# Altium integrated library Linear Technology PMIC-Switching Reg LT1074-LT8705.IntLib: 2252 symbols (part 118 of 124)
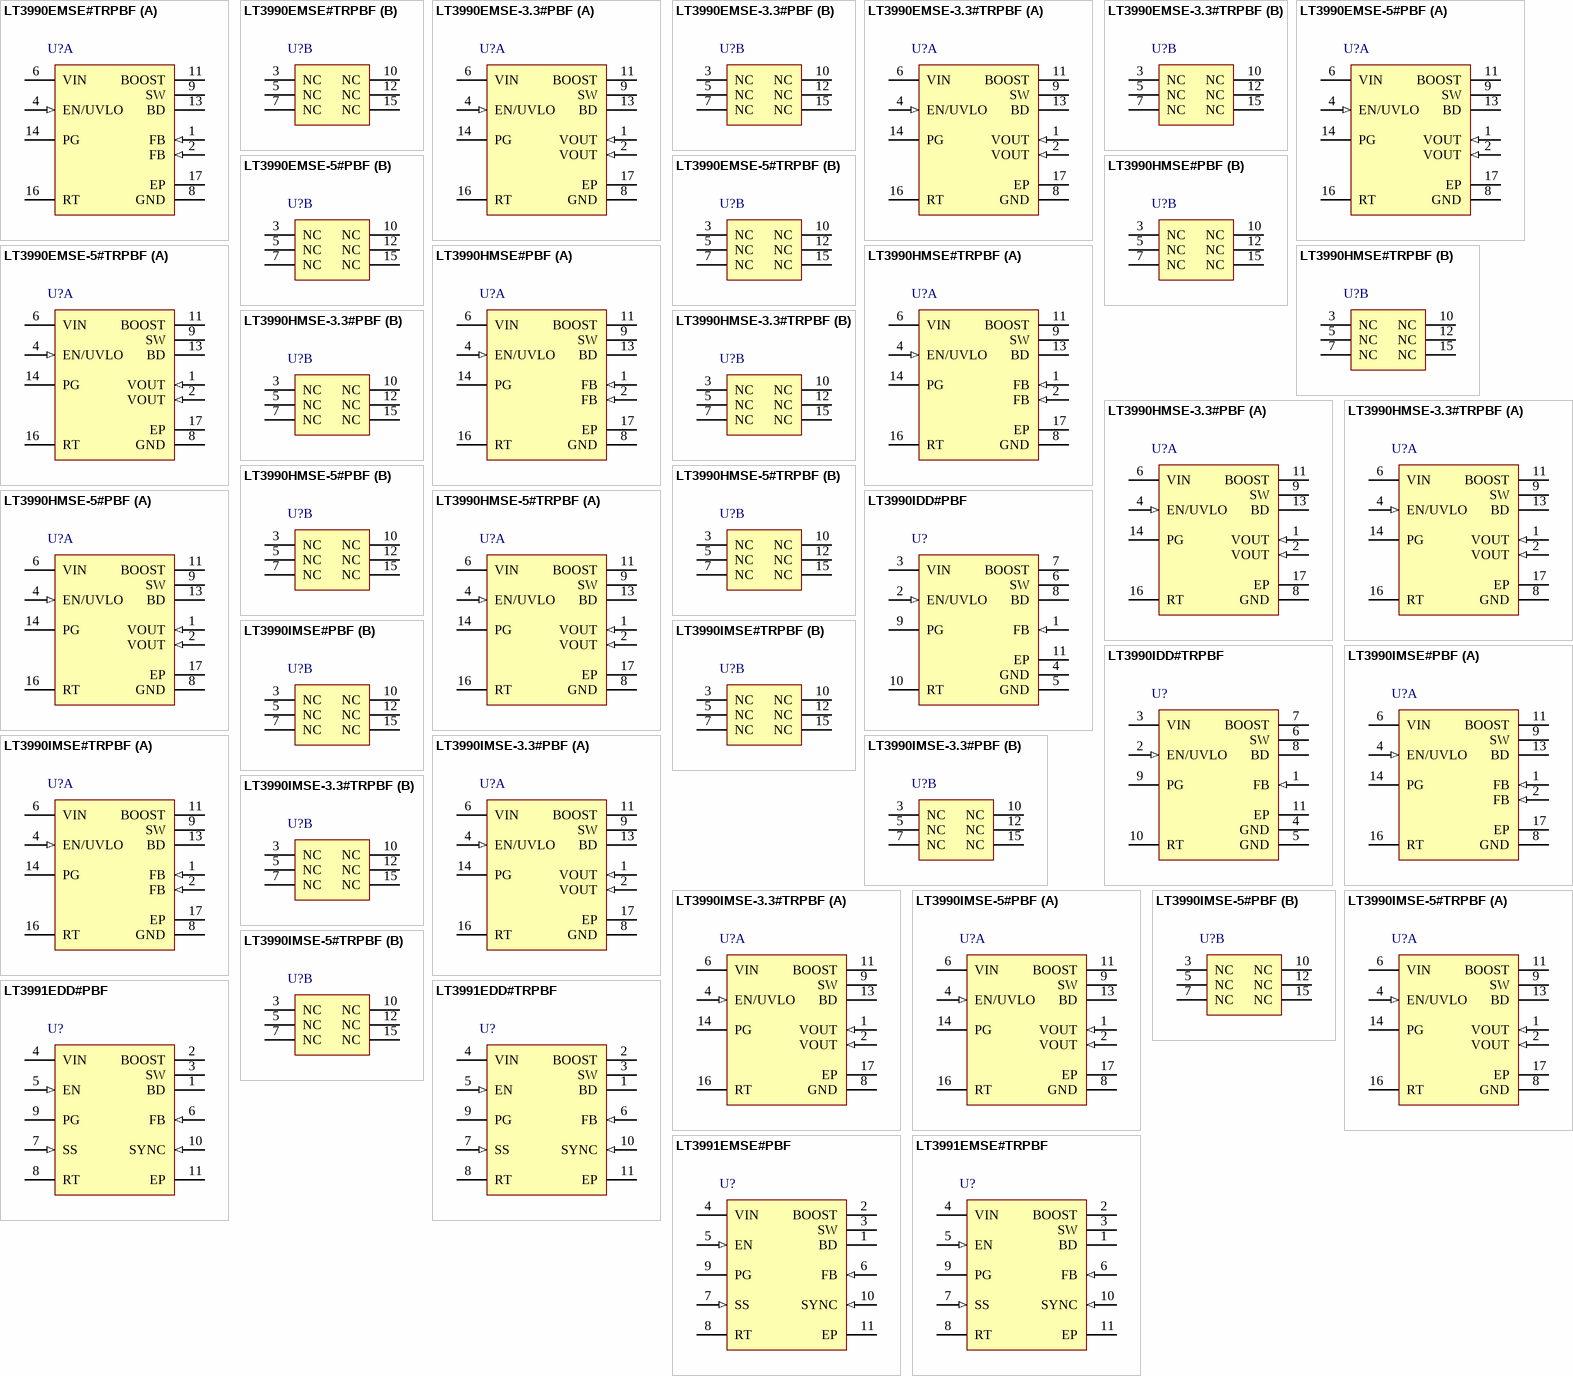
[diagram p188: symbols LT3990EMSE#TRPBF to LT3991EMSE#TRPBF]

## LT3990IDD#TRPBF
designator U?
350 mA Step-Down Regulator with 2.5 uA Quiescent Current and Integrated Diodes, 10-pin SON (DD-10), -40 to 125 degC, Pb-Free, Tape and Reel; Manufacturer: Linear Technology; PartNumber: LT3990IDD#TRPBF; Number of Outputs: 1; PackageReference: DD-10; PackageDescription: 10-Pin Plastic DFN, Body 3 x 3 mm, Pitch 0.5 mm; Supplier 1: Digi-Key; Supplier Part Number 1: LT3990IDD#TRPBF-ND; RoHS: TRUE
footprint LT-DD-10_V (SON, 10-Leads, Body 3x3mm, Pitch 0.5mm, Thermal Pad 2.38x1.65mm)
pins: 1 FB (in) "The LT3990 regulates the FB pin to 1.21V. Connect the feedback resistor divider tap to this pin. The two FB pins on the MSE package are connected internally and provide a redundant path for the feedback divider. Tie the (See Datasheet)", 2 EN/UVLO (in) "The part is in shutdown when this pin is low and active when this pin is high. The threshold voltage is 1.19V going up with 35mV of hysteresis. Tie to VIN if shutdown feature is not used. The EN/UVLO threshold is accurate (See Datasheet)", 3 VIN (power) "The VIN pin supplies current to the LT3990’s internal circuitry and to the internal power switch. This pin must be locally bypassed.", 4 GND (power) "Ground.", 5 GND (power) "Ground.", 6 SW (power) "The SW pin is the output of an internal power switch. Connect this pin to the inductor.", 7 BOOST "This pin is used to provide a drive voltage, higher than the input voltage, to the internal bipolar NPN power switch.", 8 BD (power) "This pin connects to the anode of the boost diode. This pin also supplies current to the LT3990’s internal regulator when BD is above 3.2V.", 9 PG (oc) "The PG pin is the open-drain output of an internal comparator. PG remains low until the FB pin is within 10% of the final regulation voltage. PG is valid when VIN is above 4.2V and EN/UVLO is high.", 10 RT "A resistor is tied between RT and ground to set the switching frequency.", 11 EP (power) "The exposed pad must be soldered to the PCB."

## LT3990IMSE#PBF
designator U?
350 mA Step-Down Regulator with 2.5 uA Quiescent Current and Integrated Diodes, 16-pin SOP (MSE-16-EDP), -40 to 125 degC, Pb-Free; Manufacturer: Linear Technology; PartNumber: LT3990IMSE#PBF; Number of Outputs: 1; PackageReference: MSE-16; PackageDescription: 16-Pin Plastic MSOP, Exposed Die Pad, Body 4.039 x 3 mm, Pitch 0.5 mm; Supplier 1: Digi-Key; Supplier Part Number 1: LT3990IMSE#PBF-ND; RoHS: TRUE
footprint LT-MSE-16-EDP_N (SOP, 16-Leads, Body 4.1x3.1mm, Pitch 0.5mm, Thermal Pad 2.95x1.76mm, IPC Medium Density)
footprint LT-MSE-16-EDP_L (SOP, 16-Leads, Body 4.1x3.1mm, Pitch 0.5mm, Thermal Pad 2.95x1.76mm, IPC High Density)
footprint LT-MSE-16-EDP_M (SOP, 16-Leads, Body 4.1x3.1mm, Pitch 0.5mm, Thermal Pad 2.95x1.76mm, IPC Low Density)
part A pins: 1 FB (in) "The LT3990 regulates the FB pin to 1.21V. Connect the feedback resistor divider tap to this pin. The two FB pins on the MSE package are connected internally and provide a redundant path for the feedback divider. Tie the (See Datasheet)", 2 FB (in) "The LT3990 regulates the FB pin to 1.21V. Connect the feedback resistor divider tap to this pin. The two FB pins on the MSE package are connected internally and provide a redundant path for the feedback divider. Tie the (See Datasheet)", 4 EN/UVLO (in) "The part is in shutdown when this pin is low and active when this pin is high. The threshold voltage is 1.19V going up with 35mV of hysteresis. Tie to VIN if shutdown feature is not used. The EN/UVLO threshold is accurate (See Datasheet)", 6 VIN (power) "The VIN pin supplies current to the LT3990’s internal circuitry and to the internal power switch. This pin must be locally bypassed.", 8 GND (power) "Ground. The exposed pad must be soldered to the PCB.", 9 SW (power) "The SW pin is the output of an internal power switch. Connect this pin to the inductor.", 11 BOOST "This pin is used to provide a drive voltage, higher than the input voltage, to the internal bipolar NPN power switch.", 13 BD (power) "This pin connects to the anode of the boost diode. This pin also supplies current to the LT3990’s internal regulator when BD is above 3.2V.", 14 PG (oc) "The PG pin is the open-drain output of an internal comparator. PG remains low until the FB pin is within 10% of the final regulation voltage. PG is valid when VIN is above 4.2V and EN/UVLO is high.", 16 RT "A resistor is tied between RT and ground to set the switching frequency.", 17 EP (power) "Ground. The exposed pad must be soldered to the PCB."
part B pins: 3 NC "No Connects. These pins are not connected to internal circuitry and must be left floating to ensure fault tolerance.", 5 NC "No Connects. These pins are not connected to internal circuitry and must be left floating to ensure fault tolerance.", 7 NC "No Connects. These pins are not connected to internal circuitry and must be left floating to ensure fault tolerance.", 10 NC "No Connects. These pins are not connected to internal circuitry and must be left floating to ensure fault tolerance.", 12 NC "No Connects. These pins are not connected to internal circuitry and must be left floating to ensure fault tolerance.", 15 NC "No Connects. These pins are not connected to internal circuitry and must be left floating to ensure fault tolerance."

## LT3990IMSE#TRPBF
designator U?
350 mA Step-Down Regulator with 2.5 uA Quiescent Current and Integrated Diodes, 16-pin SOP (MSE-16-EDP), -40 to 125 degC, Pb-Free, Tape and Reel; Manufacturer: Linear Technology; PartNumber: LT3990IMSE#TRPBF; Number of Outputs: 1; PackageReference: MSE-16; PackageDescription: 16-Pin Plastic MSOP, Exposed Die Pad, Body 4.039 x 3 mm, Pitch 0.5 mm; Supplier 1: Digi-Key; Supplier Part Number 1: LT3990IMSE#TRPBF-ND; RoHS: TRUE
footprint LT-MSE-16-EDP_N (SOP, 16-Leads, Body 4.1x3.1mm, Pitch 0.5mm, Thermal Pad 2.95x1.76mm, IPC Medium Density)
footprint LT-MSE-16-EDP_L (SOP, 16-Leads, Body 4.1x3.1mm, Pitch 0.5mm, Thermal Pad 2.95x1.76mm, IPC High Density)
footprint LT-MSE-16-EDP_M (SOP, 16-Leads, Body 4.1x3.1mm, Pitch 0.5mm, Thermal Pad 2.95x1.76mm, IPC Low Density)
part A pins: 1 FB (in) "The LT3990 regulates the FB pin to 1.21V. Connect the feedback resistor divider tap to this pin. The two FB pins on the MSE package are connected internally and provide a redundant path for the feedback divider. Tie the (See Datasheet)", 2 FB (in) "The LT3990 regulates the FB pin to 1.21V. Connect the feedback resistor divider tap to this pin. The two FB pins on the MSE package are connected internally and provide a redundant path for the feedback divider. Tie the (See Datasheet)", 4 EN/UVLO (in) "The part is in shutdown when this pin is low and active when this pin is high. The threshold voltage is 1.19V going up with 35mV of hysteresis. Tie to VIN if shutdown feature is not used. The EN/UVLO threshold is accurate (See Datasheet)", 6 VIN (power) "The VIN pin supplies current to the LT3990’s internal circuitry and to the internal power switch. This pin must be locally bypassed.", 8 GND (power) "Ground. The exposed pad must be soldered to the PCB.", 9 SW (power) "The SW pin is the output of an internal power switch. Connect this pin to the inductor.", 11 BOOST "This pin is used to provide a drive voltage, higher than the input voltage, to the internal bipolar NPN power switch.", 13 BD (power) "This pin connects to the anode of the boost diode. This pin also supplies current to the LT3990’s internal regulator when BD is above 3.2V.", 14 PG (oc) "The PG pin is the open-drain output of an internal comparator. PG remains low until the FB pin is within 10% of the final regulation voltage. PG is valid when VIN is above 4.2V and EN/UVLO is high.", 16 RT "A resistor is tied between RT and ground to set the switching frequency.", 17 EP (power) "Ground. The exposed pad must be soldered to the PCB."
part B pins: 3 NC "No Connects. These pins are not connected to internal circuitry and must be left floating to ensure fault tolerance.", 5 NC "No Connects. These pins are not connected to internal circuitry and must be left floating to ensure fault tolerance.", 7 NC "No Connects. These pins are not connected to internal circuitry and must be left floating to ensure fault tolerance.", 10 NC "No Connects. These pins are not connected to internal circuitry and must be left floating to ensure fault tolerance.", 12 NC "No Connects. These pins are not connected to internal circuitry and must be left floating to ensure fault tolerance.", 15 NC "No Connects. These pins are not connected to internal circuitry and must be left floating to ensure fault tolerance."

## LT3990IMSE-3.3#PBF
designator U?
350 mA Step-Down Regulator with 2.5 uA Quiescent Current and Integrated Diodes, 16-pin SOP (MSE-16-EDP), -40 to 125 degC, Pb-Free; Manufacturer: Linear Technology; PartNumber: LT3990IMSE-3.3#PBF; Number of Outputs: 1; PackageReference: MSE-16; PackageDescription: 16-Pin Plastic MSOP, Exposed Die Pad, Body 4.039 x 3 mm, Pitch 0.5 mm; Supplier 1: Digi-Key; Supplier Part Number 1: LT3990IMSE-3.3#PBF-ND; RoHS: TRUE
footprint LT-MSE-16-EDP_N (SOP, 16-Leads, Body 4.1x3.1mm, Pitch 0.5mm, Thermal Pad 2.95x1.76mm, IPC Medium Density)
footprint LT-MSE-16-EDP_L (SOP, 16-Leads, Body 4.1x3.1mm, Pitch 0.5mm, Thermal Pad 2.95x1.76mm, IPC High Density)
footprint LT-MSE-16-EDP_M (SOP, 16-Leads, Body 4.1x3.1mm, Pitch 0.5mm, Thermal Pad 2.95x1.76mm, IPC Low Density)
part A pins: 1 VOUT (in) "The LT3990-3.3 and LT3990-5 regulate the VOUT pin to 3.3V and 5V, respectively. This pin connects to the internal feedback divider that programs the fixed output voltage. The two VOUT pins are connected internally and (See Datasheet)", 2 VOUT (in) "The LT3990-3.3 and LT3990-5 regulate the VOUT pin to 3.3V and 5V, respectively. This pin connects to the internal feedback divider that programs the fixed output voltage. The two VOUT pins are connected internally and (See Datasheet)", 4 EN/UVLO (in) "The part is in shutdown when this pin is low and active when this pin is high. The threshold voltage is 1.19V going up with 35mV of hysteresis. Tie to VIN if shutdown feature is not used. The EN/UVLO threshold is accurate (See Datasheet)", 6 VIN (power) "The VIN pin supplies current to the LT3990’s internal circuitry and to the internal power switch. This pin must be locally bypassed.", 8 GND (power) "Ground.", 9 SW (power) "The SW pin is the output of an internal power switch. Connect this pin to the inductor.", 11 BOOST "This pin is used to provide a drive voltage, higher than the input voltage, to the internal bipolar NPN power switch.", 13 BD (power) "This pin connects to the anode of the boost diode. This pin also supplies current to the LT3990’s internal regulator when BD is above 3.2V.", 14 PG (oc) "The PG pin is the open-drain output of an internal comparator. PG remains low until the FB pin is within 10% of the final regulation voltage. PG is valid when VIN is above 4.2V and EN/UVLO is high.", 16 RT "A resistor is tied between RT and ground to set the switching frequency.", 17 EP (power) "Ground. The exposed pad must be soldered to the PCB."
part B pins: 3 NC "No Connects. These pins are not connected to internal circuitry and must be left floating to ensure fault tolerance.", 5 NC "No Connects. These pins are not connected to internal circuitry and must be left floating to ensure fault tolerance.", 7 NC "No Connects. These pins are not connected to internal circuitry and must be left floating to ensure fault tolerance.", 10 NC "No Connects. These pins are not connected to internal circuitry and must be left floating to ensure fault tolerance.", 12 NC "No Connects. These pins are not connected to internal circuitry and must be left floating to ensure fault tolerance.", 15 NC "No Connects. These pins are not connected to internal circuitry and must be left floating to ensure fault tolerance."

## LT3990IMSE-3.3#TRPBF
designator U?
350 mA Step-Down Regulator with 2.5 uA Quiescent Current and Integrated Diodes, 16-pin SOP (MSE-16-EDP), -40 to 125 degC, Pb-Free, Tape and Reel; Manufacturer: Linear Technology; PartNumber: LT3990IMSE-3.3#TRPBF; Number of Outputs: 1; PackageReference: MSE-16; PackageDescription: 16-Pin Plastic MSOP, Exposed Die Pad, Body 4.039 x 3 mm, Pitch 0.5 mm; Supplier 1: Digi-Key; Supplier Part Number 1: LT3990IMSE-3.3#TRPBF-ND; RoHS: TRUE
footprint LT-MSE-16-EDP_N (SOP, 16-Leads, Body 4.1x3.1mm, Pitch 0.5mm, Thermal Pad 2.95x1.76mm, IPC Medium Density)
footprint LT-MSE-16-EDP_L (SOP, 16-Leads, Body 4.1x3.1mm, Pitch 0.5mm, Thermal Pad 2.95x1.76mm, IPC High Density)
footprint LT-MSE-16-EDP_M (SOP, 16-Leads, Body 4.1x3.1mm, Pitch 0.5mm, Thermal Pad 2.95x1.76mm, IPC Low Density)
part A pins: 1 VOUT (in) "The LT3990-3.3 and LT3990-5 regulate the VOUT pin to 3.3V and 5V, respectively. This pin connects to the internal feedback divider that programs the fixed output voltage. The two VOUT pins are connected internally and (See Datasheet)", 2 VOUT (in) "The LT3990-3.3 and LT3990-5 regulate the VOUT pin to 3.3V and 5V, respectively. This pin connects to the internal feedback divider that programs the fixed output voltage. The two VOUT pins are connected internally and (See Datasheet)", 4 EN/UVLO (in) "The part is in shutdown when this pin is low and active when this pin is high. The threshold voltage is 1.19V going up with 35mV of hysteresis. Tie to VIN if shutdown feature is not used. The EN/UVLO threshold is accurate (See Datasheet)", 6 VIN (power) "The VIN pin supplies current to the LT3990’s internal circuitry and to the internal power switch. This pin must be locally bypassed.", 8 GND (power) "Ground.", 9 SW (power) "The SW pin is the output of an internal power switch. Connect this pin to the inductor.", 11 BOOST "This pin is used to provide a drive voltage, higher than the input voltage, to the internal bipolar NPN power switch.", 13 BD (power) "This pin connects to the anode of the boost diode. This pin also supplies current to the LT3990’s internal regulator when BD is above 3.2V.", 14 PG (oc) "The PG pin is the open-drain output of an internal comparator. PG remains low until the FB pin is within 10% of the final regulation voltage. PG is valid when VIN is above 4.2V and EN/UVLO is high.", 16 RT "A resistor is tied between RT and ground to set the switching frequency.", 17 EP (power) "Ground. The exposed pad must be soldered to the PCB."
part B pins: 3 NC "No Connects. These pins are not connected to internal circuitry and must be left floating to ensure fault tolerance.", 5 NC "No Connects. These pins are not connected to internal circuitry and must be left floating to ensure fault tolerance.", 7 NC "No Connects. These pins are not connected to internal circuitry and must be left floating to ensure fault tolerance.", 10 NC "No Connects. These pins are not connected to internal circuitry and must be left floating to ensure fault tolerance.", 12 NC "No Connects. These pins are not connected to internal circuitry and must be left floating to ensure fault tolerance.", 15 NC "No Connects. These pins are not connected to internal circuitry and must be left floating to ensure fault tolerance."

## LT3990IMSE-5#PBF
designator U?
350 mA Step-Down Regulator with 2.5 uA Quiescent Current and Integrated Diodes, 16-pin SOP (MSE-16-EDP), -40 to 125 degC, Pb-Free; Manufacturer: Linear Technology; PartNumber: LT3990IMSE-5#PBF; Number of Outputs: 1; PackageReference: MSE-16; PackageDescription: 16-Pin Plastic MSOP, Exposed Die Pad, Body 4.039 x 3 mm, Pitch 0.5 mm; Supplier 1: Digi-Key; Supplier Part Number 1: LT3990IMSE-5#PBF-ND; RoHS: TRUE
footprint LT-MSE-16-EDP_N (SOP, 16-Leads, Body 4.1x3.1mm, Pitch 0.5mm, Thermal Pad 2.95x1.76mm, IPC Medium Density)
footprint LT-MSE-16-EDP_L (SOP, 16-Leads, Body 4.1x3.1mm, Pitch 0.5mm, Thermal Pad 2.95x1.76mm, IPC High Density)
footprint LT-MSE-16-EDP_M (SOP, 16-Leads, Body 4.1x3.1mm, Pitch 0.5mm, Thermal Pad 2.95x1.76mm, IPC Low Density)
part A pins: 1 VOUT (in) "The LT3990-3.3 and LT3990-5 regulate the VOUT pin to 3.3V and 5V, respectively. This pin connects to the internal feedback divider that programs the fixed output voltage. The two VOUT pins are connected internally and (See Datasheet)", 2 VOUT (in) "The LT3990-3.3 and LT3990-5 regulate the VOUT pin to 3.3V and 5V, respectively. This pin connects to the internal feedback divider that programs the fixed output voltage. The two VOUT pins are connected internally and (See Datasheet)", 4 EN/UVLO (in) "The part is in shutdown when this pin is low and active when this pin is high. The threshold voltage is 1.19V going up with 35mV of hysteresis. Tie to VIN if shutdown feature is not used. The EN/UVLO threshold is accurate (See Datasheet)", 6 VIN (power) "The VIN pin supplies current to the LT3990’s internal circuitry and to the internal power switch. This pin must be locally bypassed.", 8 GND (power) "Ground.", 9 SW (power) "The SW pin is the output of an internal power switch. Connect this pin to the inductor.", 11 BOOST "This pin is used to provide a drive voltage, higher than the input voltage, to the internal bipolar NPN power switch.", 13 BD (power) "This pin connects to the anode of the boost diode. This pin also supplies current to the LT3990’s internal regulator when BD is above 3.2V.", 14 PG (oc) "The PG pin is the open-drain output of an internal comparator. PG remains low until the FB pin is within 10% of the final regulation voltage. PG is valid when VIN is above 4.2V and EN/UVLO is high.", 16 RT "A resistor is tied between RT and ground to set the switching frequency.", 17 EP (power) "Ground. The exposed pad must be soldered to the PCB."
part B pins: 3 NC "No Connects. These pins are not connected to internal circuitry and must be left floating to ensure fault tolerance.", 5 NC "No Connects. These pins are not connected to internal circuitry and must be left floating to ensure fault tolerance.", 7 NC "No Connects. These pins are not connected to internal circuitry and must be left floating to ensure fault tolerance.", 10 NC "No Connects. These pins are not connected to internal circuitry and must be left floating to ensure fault tolerance.", 12 NC "No Connects. These pins are not connected to internal circuitry and must be left floating to ensure fault tolerance.", 15 NC "No Connects. These pins are not connected to internal circuitry and must be left floating to ensure fault tolerance."

## LT3990IMSE-5#TRPBF
designator U?
350 mA Step-Down Regulator with 2.5 uA Quiescent Current and Integrated Diodes, 16-pin SOP (MSE-16-EDP), -40 to 125 degC, Pb-Free, Tape and Reel; Manufacturer: Linear Technology; PartNumber: LT3990IMSE-5#TRPBF; Number of Outputs: 1; PackageReference: MSE-16; PackageDescription: 16-Pin Plastic MSOP, Exposed Die Pad, Body 4.039 x 3 mm, Pitch 0.5 mm; Supplier 1: Digi-Key; Supplier Part Number 1: LT3990IMSE-5#TRPBF-ND; RoHS: TRUE
footprint LT-MSE-16-EDP_N (SOP, 16-Leads, Body 4.1x3.1mm, Pitch 0.5mm, Thermal Pad 2.95x1.76mm, IPC Medium Density)
footprint LT-MSE-16-EDP_L (SOP, 16-Leads, Body 4.1x3.1mm, Pitch 0.5mm, Thermal Pad 2.95x1.76mm, IPC High Density)
footprint LT-MSE-16-EDP_M (SOP, 16-Leads, Body 4.1x3.1mm, Pitch 0.5mm, Thermal Pad 2.95x1.76mm, IPC Low Density)
part A pins: 1 VOUT (in) "The LT3990-3.3 and LT3990-5 regulate the VOUT pin to 3.3V and 5V, respectively. This pin connects to the internal feedback divider that programs the fixed output voltage. The two VOUT pins are connected internally and (See Datasheet)", 2 VOUT (in) "The LT3990-3.3 and LT3990-5 regulate the VOUT pin to 3.3V and 5V, respectively. This pin connects to the internal feedback divider that programs the fixed output voltage. The two VOUT pins are connected internally and (See Datasheet)", 4 EN/UVLO (in) "The part is in shutdown when this pin is low and active when this pin is high. The threshold voltage is 1.19V going up with 35mV of hysteresis. Tie to VIN if shutdown feature is not used. The EN/UVLO threshold is accurate (See Datasheet)", 6 VIN (power) "The VIN pin supplies current to the LT3990’s internal circuitry and to the internal power switch. This pin must be locally bypassed.", 8 GND (power) "Ground.", 9 SW (power) "The SW pin is the output of an internal power switch. Connect this pin to the inductor.", 11 BOOST "This pin is used to provide a drive voltage, higher than the input voltage, to the internal bipolar NPN power switch.", 13 BD (power) "This pin connects to the anode of the boost diode. This pin also supplies current to the LT3990’s internal regulator when BD is above 3.2V.", 14 PG (oc) "The PG pin is the open-drain output of an internal comparator. PG remains low until the FB pin is within 10% of the final regulation voltage. PG is valid when VIN is above 4.2V and EN/UVLO is high.", 16 RT "A resistor is tied between RT and ground to set the switching frequency.", 17 EP (power) "Ground. The exposed pad must be soldered to the PCB."
part B pins: 3 NC "No Connects. These pins are not connected to internal circuitry and must be left floating to ensure fault tolerance.", 5 NC "No Connects. These pins are not connected to internal circuitry and must be left floating to ensure fault tolerance.", 7 NC "No Connects. These pins are not connected to internal circuitry and must be left floating to ensure fault tolerance.", 10 NC "No Connects. These pins are not connected to internal circuitry and must be left floating to ensure fault tolerance.", 12 NC "No Connects. These pins are not connected to internal circuitry and must be left floating to ensure fault tolerance.", 15 NC "No Connects. These pins are not connected to internal circuitry and must be left floating to ensure fault tolerance."

## LT3991EDD#PBF
designator U?
1.2 A Step-Down Regulator with 2.8 uA Quiescent Current, 10-pin SON (DD-10), -40 to 125 degC, Pb-Free; Manufacturer: Linear Technology; PartNumber: LT3991EDD#PBF; Number of Outputs: 1; PackageReference: DD-10; PackageDescription: 10-Pin Plastic DFN, Body 3 x 3 mm, Pitch 0.5 mm; Supplier 1: Digi-Key; Supplier Part Number 1: LT3991EDD#PBF-ND; RoHS: TRUE
footprint LT-DD-10_V (SON, 10-Leads, Body 3x3mm, Pitch 0.5mm, Thermal Pad 2.38x1.65mm)
pins: 1 BD (power) "This pin connects to the anode of the boost diode. The BD pin is normally connected to the output.", 2 BOOST "This pin is used to provide a drive voltage, higher than the input voltage, to the internal bipolar NPN power switch.", 3 SW (power) "The SW pin is the output of an internal power switch. Connect this pin to the inductor, catch diode, and boost capacitor.", 4 VIN (power), 5 EN (in), 6 FB (in), 7 SS (in), 8 RT "A resistor is tied between RT and ground to set the switching frequency.", 9 PG (oc), 10 SYNC (in) "This is the external clock synchronization input. Ground this pin for low ripple Burst Mode operation at low output loads. Tie to a clock source for synchronization, which will include pulse-skipping at low output loads. (See Datasheet)", 11 EP (power) "Ground. The exposed pad must be soldered to PCB."

## LT3991EDD#TRPBF
designator U?
1.2 A Step-Down Regulator with 2.8 uA Quiescent Current, 10-pin SON (DD-10), -40 to 125 degC, Pb-Free, Tape and Reel; Manufacturer: Linear Technology; PartNumber: LT3991EDD#TRPBF; Number of Outputs: 1; PackageReference: DD-10; PackageDescription: 10-Pin Plastic DFN, Body 3 x 3 mm, Pitch 0.5 mm; Supplier 1: Digi-Key; Supplier Part Number 1: LT3991EDD#TRPBF-ND; RoHS: TRUE
footprint LT-DD-10_V (SON, 10-Leads, Body 3x3mm, Pitch 0.5mm, Thermal Pad 2.38x1.65mm)
pins: 1 BD (power) "This pin connects to the anode of the boost diode. The BD pin is normally connected to the output.", 2 BOOST "This pin is used to provide a drive voltage, higher than the input voltage, to the internal bipolar NPN power switch.", 3 SW (power) "The SW pin is the output of an internal power switch. Connect this pin to the inductor, catch diode, and boost capacitor.", 4 VIN (power), 5 EN (in), 6 FB (in), 7 SS (in), 8 RT "A resistor is tied between RT and ground to set the switching frequency.", 9 PG (oc), 10 SYNC (in) "This is the external clock synchronization input. Ground this pin for low ripple Burst Mode operation at low output loads. Tie to a clock source for synchronization, which will include pulse-skipping at low output loads. (See Datasheet)", 11 EP (power) "Ground. The exposed pad must be soldered to PCB."

## LT3991EMSE#PBF
designator U?
1.2 A Step-Down Regulator with 2.8 uA Quiescent Current, 10-pin SOP (MSE-10-EDP), -40 to 125 degC, Pb-Free; Manufacturer: Linear Technology; PartNumber: LT3991EMSE#PBF; Number of Outputs: 1; PackageReference: MSE-10; PackageDescription: 10-Pin Plastic MSOP, Exposed Die Pad, Body 3 x 3 mm, Pitch 0.5 mm; Supplier 1: Digi-Key; Supplier Part Number 1: LT3991EMSE#PBF-ND; RoHS: TRUE
footprint LT-MSE-10-EDP_N (SOP, 10-Leads, Body 3.1x3.1mm, Pitch 0.5mm, Thermal Pad 1.88x1.68mm, IPC Medium Density)
footprint LT-MSE-10-EDP_L (SOP, 10-Leads, Body 3.1x3.1mm, Pitch 0.5mm, Thermal Pad 1.88x1.68mm, IPC High Density)
footprint LT-MSE-10-EDP_M (SOP, 10-Leads, Body 3.1x3.1mm, Pitch 0.5mm, Thermal Pad 1.88x1.68mm, IPC Low Density)
pins: 1 BD (power) "This pin connects to the anode of the boost diode. The BD pin is normally connected to the output.", 2 BOOST "This pin is used to provide a drive voltage, higher than the input voltage, to the internal bipolar NPN power switch.", 3 SW (power) "The SW pin is the output of an internal power switch. Connect this pin to the inductor, catch diode, and boost capacitor.", 4 VIN (power), 5 EN (in), 6 FB (in), 7 SS (in), 8 RT "A resistor is tied between RT and ground to set the switching frequency.", 9 PG (oc), 10 SYNC (in) "This is the external clock synchronization input. Ground this pin for low ripple Burst Mode operation at low output loads. Tie to a clock source for synchronization, which will include pulse-skipping at low output loads. (See Datasheet)", 11 EP (power) "Ground. The exposed pad must be soldered to PCB."

## LT3991EMSE#TRPBF
designator U?
1.2 A Step-Down Regulator with 2.8 uA Quiescent Current, 10-pin SOP (MSE-10-EDP), -40 to 125 degC, Pb-Free, Tape and Reel; Manufacturer: Linear Technology; PartNumber: LT3991EMSE#TRPBF; Number of Outputs: 1; PackageReference: MSE-10; PackageDescription: 10-Pin Plastic MSOP, Exposed Die Pad, Body 3 x 3 mm, Pitch 0.5 mm; Supplier 1: Digi-Key; Supplier Part Number 1: LT3991EMSE#TRPBF-ND; RoHS: TRUE
footprint LT-MSE-10-EDP_N (SOP, 10-Leads, Body 3.1x3.1mm, Pitch 0.5mm, Thermal Pad 1.88x1.68mm, IPC Medium Density)
footprint LT-MSE-10-EDP_L (SOP, 10-Leads, Body 3.1x3.1mm, Pitch 0.5mm, Thermal Pad 1.88x1.68mm, IPC High Density)
footprint LT-MSE-10-EDP_M (SOP, 10-Leads, Body 3.1x3.1mm, Pitch 0.5mm, Thermal Pad 1.88x1.68mm, IPC Low Density)
pins: 1 BD (power) "This pin connects to the anode of the boost diode. The BD pin is normally connected to the output.", 2 BOOST "This pin is used to provide a drive voltage, higher than the input voltage, to the internal bipolar NPN power switch.", 3 SW (power) "The SW pin is the output of an internal power switch. Connect this pin to the inductor, catch diode, and boost capacitor.", 4 VIN (power), 5 EN (in), 6 FB (in), 7 SS (in), 8 RT "A resistor is tied between RT and ground to set the switching frequency.", 9 PG (oc), 10 SYNC (in) "This is the external clock synchronization input. Ground this pin for low ripple Burst Mode operation at low output loads. Tie to a clock source for synchronization, which will include pulse-skipping at low output loads. (See Datasheet)", 11 EP (power) "Ground. The exposed pad must be soldered to PCB."

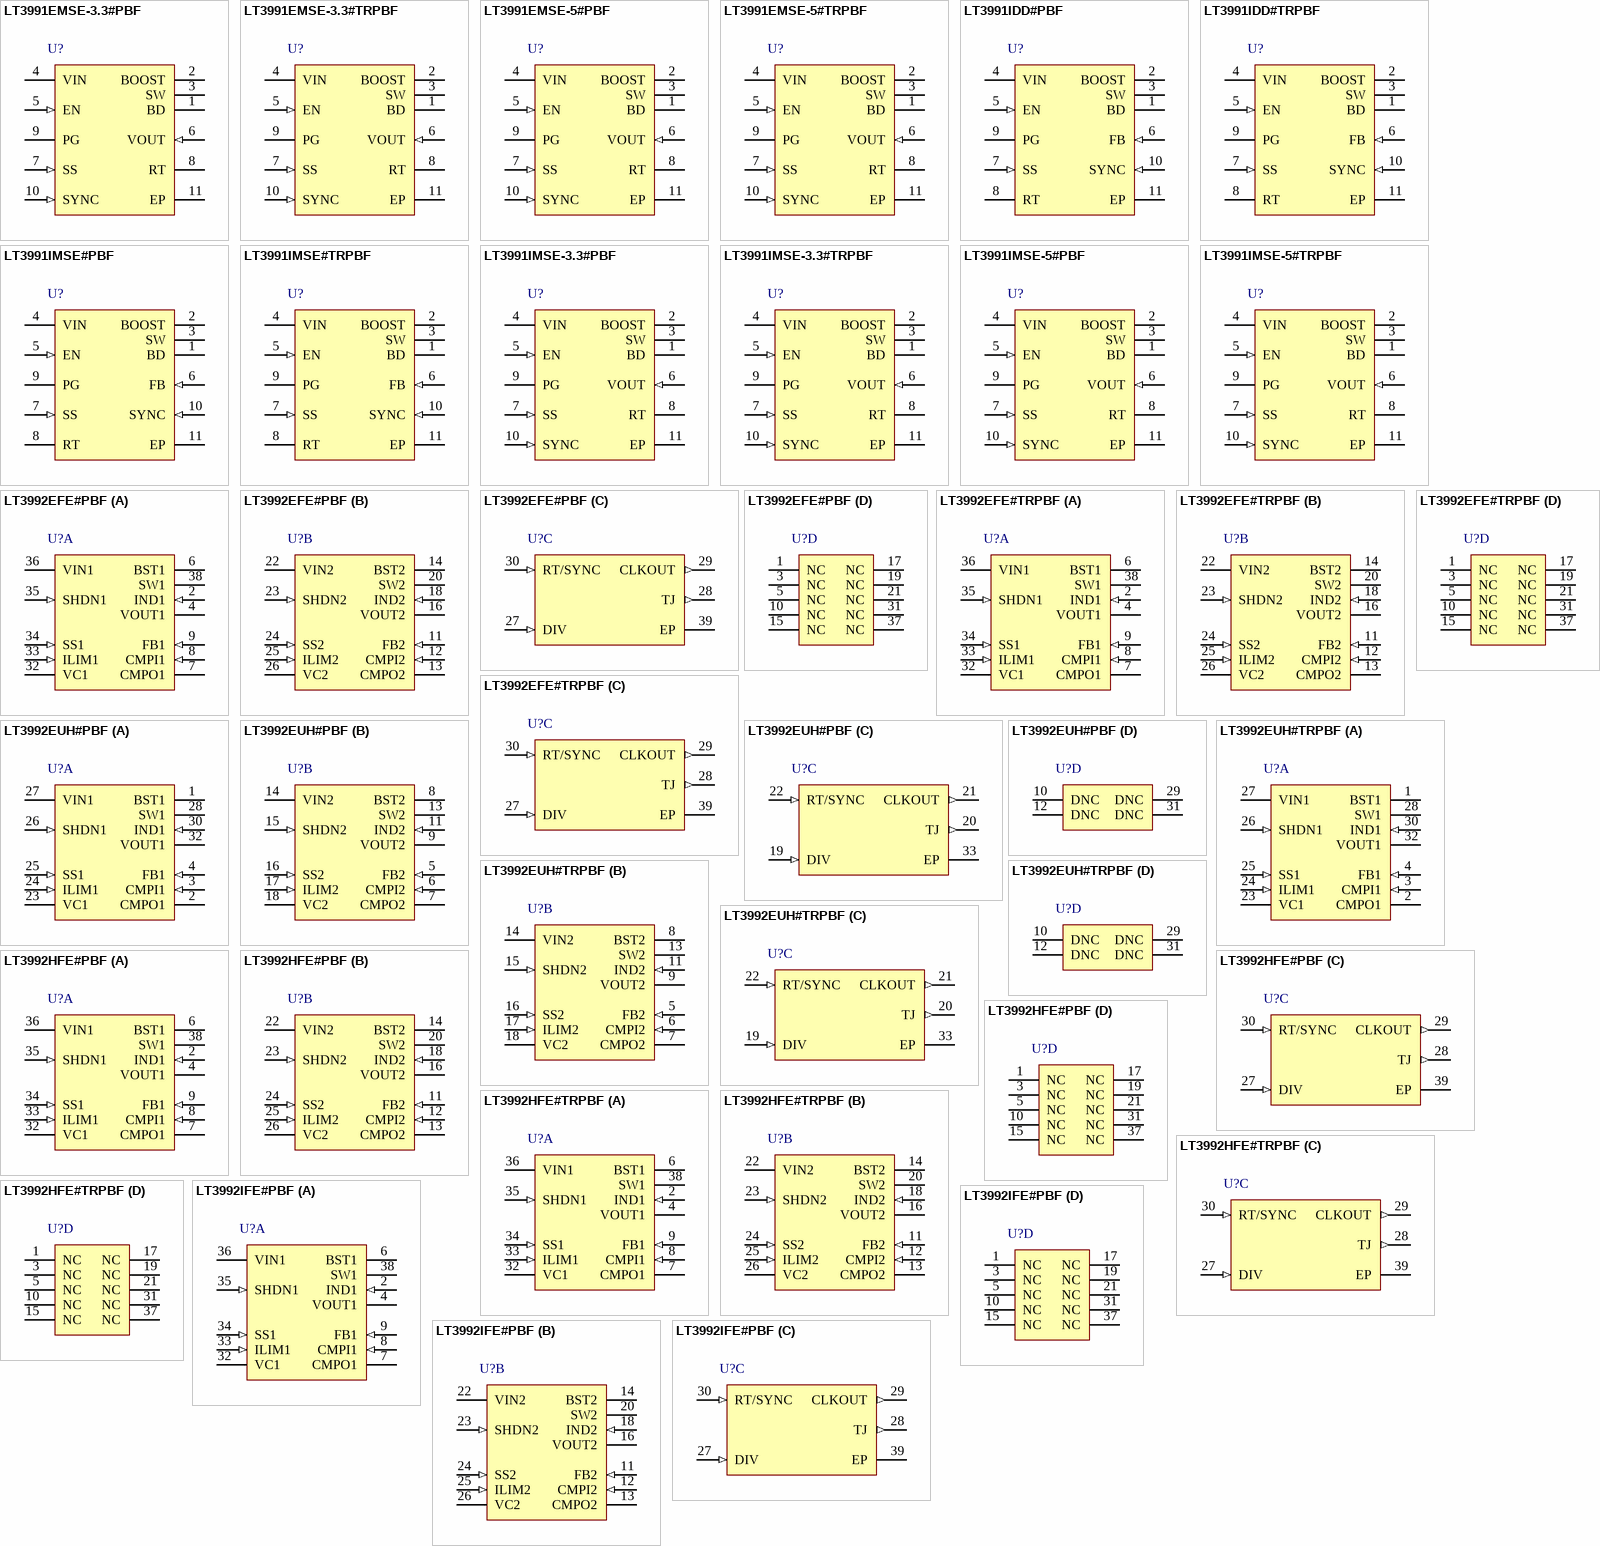
[diagram p68: symbols LT3991EMSE-3.3#PBF to LT3992IFE#PBF]

## LT3991EMSE-3.3#PBF
designator U?
1.2 A Step-Down Regulator with 2.8 uA Quiescent Current, 10-pin SOP (MSE-10-EDP), -40 to 125 degC, Pb-Free; Manufacturer: Linear Technology; PartNumber: LT3991EMSE-3.3#PBF; Number of Outputs: 1; PackageReference: MSE-10; PackageDescription: 10-Pin Plastic MSOP, Exposed Die Pad, Body 3 x 3 mm, Pitch 0.5 mm; Supplier 1: Digi-Key; Supplier Part Number 1: LT3991EMSE-3.3#PBF-ND; RoHS: TRUE
footprint LT-MSE-10-EDP_N (SOP, 10-Leads, Body 3.1x3.1mm, Pitch 0.5mm, Thermal Pad 1.88x1.68mm, IPC Medium Density)
footprint LT-MSE-10-EDP_L (SOP, 10-Leads, Body 3.1x3.1mm, Pitch 0.5mm, Thermal Pad 1.88x1.68mm, IPC High Density)
footprint LT-MSE-10-EDP_M (SOP, 10-Leads, Body 3.1x3.1mm, Pitch 0.5mm, Thermal Pad 1.88x1.68mm, IPC Low Density)
pins: 1 BD (power) "This pin connects to the anode of the boost diode. The BD pin is normally connected to the output.", 2 BOOST "This pin is used to provide a drive voltage, higher than the input voltage, to the internal bipolar NPN power switch.", 3 SW (power) "The SW pin is the output of an internal power switch. Connect this pin to the inductor, catch diode, and boost capacitor.", 4 VIN (power) "The VIN pin supplies current to the LT3991’s internal circuitry and to the internal power switch. This pin must be locally bypassed.", 5 EN (in) "The part is in shutdown when this pin is low and active when this pin is high. The hysteretic threshold voltage is 1.005V going up and 0.975V going down. The EN threshold is only accurate when VIN is above 4.3V. If VIN is (See Datasheet)", 6 VOUT (in) "The LT3991- 3.3 and LT3991-5 regulate the VOUT pin to 3.3V and 5V respectively. This pin connects to the internal 10Mohm feedback divider that programs the fixed output voltage.", 7 SS (in) "A capacitor and a series resistor are tied between SS and ground to slowly ramp up the peak current limit of the LT3991 on start-up. The soft-start capacitor is only actively discharged when EN is low. The SS pin is released (See Datasheet)", 8 RT "A resistor is tied between RT and ground to set the switching frequency.", 9 PG (oc) "The PG pin is the open-drain output of an internal comparator. PGOOD remains low until the FB pin is within 9% of the final regulation voltage. PGOOD is valid when the LT3991 is enabled and VIN is above 4.3V", 10 SYNC (in) "This is the external clock synchronization input. Ground this pin for low ripple Burst Mode operation at low output loads. Tie to a clock source for synchronization, which will include pulse-skipping at low output loads. (See Datasheet)", 11 EP (power) "Ground. The exposed pad must be soldered to PCB."

## LT3991EMSE-3.3#TRPBF
designator U?
1.2 A Step-Down Regulator with 2.8 uA Quiescent Current, 10-pin SOP (MSE-10-EDP), -40 to 125 degC, Pb-Free, Tape and Reel; Manufacturer: Linear Technology; PartNumber: LT3991EMSE-3.3#TRPBF; Number of Outputs: 1; PackageReference: MSE-10; PackageDescription: 10-Pin Plastic MSOP, Exposed Die Pad, Body 3 x 3 mm, Pitch 0.5 mm; Supplier 1: Digi-Key; Supplier Part Number 1: LT3991EMSE-3.3#TRPBF-ND; RoHS: TRUE
footprint LT-MSE-10-EDP_N (SOP, 10-Leads, Body 3.1x3.1mm, Pitch 0.5mm, Thermal Pad 1.88x1.68mm, IPC Medium Density)
footprint LT-MSE-10-EDP_L (SOP, 10-Leads, Body 3.1x3.1mm, Pitch 0.5mm, Thermal Pad 1.88x1.68mm, IPC High Density)
footprint LT-MSE-10-EDP_M (SOP, 10-Leads, Body 3.1x3.1mm, Pitch 0.5mm, Thermal Pad 1.88x1.68mm, IPC Low Density)
pins: 1 BD (power) "This pin connects to the anode of the boost diode. The BD pin is normally connected to the output.", 2 BOOST "This pin is used to provide a drive voltage, higher than the input voltage, to the internal bipolar NPN power switch.", 3 SW (power) "The SW pin is the output of an internal power switch. Connect this pin to the inductor, catch diode, and boost capacitor.", 4 VIN (power) "The VIN pin supplies current to the LT3991’s internal circuitry and to the internal power switch. This pin must be locally bypassed.", 5 EN (in) "The part is in shutdown when this pin is low and active when this pin is high. The hysteretic threshold voltage is 1.005V going up and 0.975V going down. The EN threshold is only accurate when VIN is above 4.3V. If VIN is (See Datasheet)", 6 VOUT (in) "The LT3991- 3.3 and LT3991-5 regulate the VOUT pin to 3.3V and 5V respectively. This pin connects to the internal 10Mohm feedback divider that programs the fixed output voltage.", 7 SS (in) "A capacitor and a series resistor are tied between SS and ground to slowly ramp up the peak current limit of the LT3991 on start-up. The soft-start capacitor is only actively discharged when EN is low. The SS pin is released (See Datasheet)", 8 RT "A resistor is tied between RT and ground to set the switching frequency.", 9 PG (oc) "The PG pin is the open-drain output of an internal comparator. PGOOD remains low until the FB pin is within 9% of the final regulation voltage. PGOOD is valid when the LT3991 is enabled and VIN is above 4.3V", 10 SYNC (in) "This is the external clock synchronization input. Ground this pin for low ripple Burst Mode operation at low output loads. Tie to a clock source for synchronization, which will include pulse-skipping at low output loads. (See Datasheet)", 11 EP (power) "Ground. The exposed pad must be soldered to PCB."

## LT3991EMSE-5#PBF
designator U?
1.2 A Step-Down Regulator with 2.8 uA Quiescent Current, 10-pin SOP (MSE-10-EDP), -40 to 125 degC, Pb-Free; Manufacturer: Linear Technology; PartNumber: LT3991EMSE-5#PBF; Number of Outputs: 1; PackageReference: MSE-10; PackageDescription: 10-Pin Plastic MSOP, Exposed Die Pad, Body 3 x 3 mm, Pitch 0.5 mm; Supplier 1: Digi-Key; Supplier Part Number 1: LT3991EMSE-5#PBF-ND; RoHS: TRUE
footprint LT-MSE-10-EDP_N (SOP, 10-Leads, Body 3.1x3.1mm, Pitch 0.5mm, Thermal Pad 1.88x1.68mm, IPC Medium Density)
footprint LT-MSE-10-EDP_L (SOP, 10-Leads, Body 3.1x3.1mm, Pitch 0.5mm, Thermal Pad 1.88x1.68mm, IPC High Density)
footprint LT-MSE-10-EDP_M (SOP, 10-Leads, Body 3.1x3.1mm, Pitch 0.5mm, Thermal Pad 1.88x1.68mm, IPC Low Density)
pins: 1 BD (power) "This pin connects to the anode of the boost diode. The BD pin is normally connected to the output.", 2 BOOST "This pin is used to provide a drive voltage, higher than the input voltage, to the internal bipolar NPN power switch.", 3 SW (power) "The SW pin is the output of an internal power switch. Connect this pin to the inductor, catch diode, and boost capacitor.", 4 VIN (power) "The VIN pin supplies current to the LT3991’s internal circuitry and to the internal power switch. This pin must be locally bypassed.", 5 EN (in) "The part is in shutdown when this pin is low and active when this pin is high. The hysteretic threshold voltage is 1.005V going up and 0.975V going down. The EN threshold is only accurate when VIN is above 4.3V. If VIN is (See Datasheet)", 6 VOUT (in) "The LT3991- 3.3 and LT3991-5 regulate the VOUT pin to 3.3V and 5V respectively. This pin connects to the internal 10Mohm feedback divider that programs the fixed output voltage.", 7 SS (in) "A capacitor and a series resistor are tied between SS and ground to slowly ramp up the peak current limit of the LT3991 on start-up. The soft-start capacitor is only actively discharged when EN is low. The SS pin is released (See Datasheet)", 8 RT "A resistor is tied between RT and ground to set the switching frequency.", 9 PG (oc) "The PG pin is the open-drain output of an internal comparator. PGOOD remains low until the FB pin is within 9% of the final regulation voltage. PGOOD is valid when the LT3991 is enabled and VIN is above 4.3V", 10 SYNC (in) "This is the external clock synchronization input. Ground this pin for low ripple Burst Mode operation at low output loads. Tie to a clock source for synchronization, which will include pulse-skipping at low output loads. (See Datasheet)", 11 EP (power) "Ground. The exposed pad must be soldered to PCB."

## LT3991EMSE-5#TRPBF
designator U?
1.2 A Step-Down Regulator with 2.8 uA Quiescent Current, 10-pin SOP (MSE-10-EDP), -40 to 125 degC, Pb-Free, Tape and Reel; Manufacturer: Linear Technology; PartNumber: LT3991EMSE-5#TRPBF; Number of Outputs: 1; PackageReference: MSE-10; PackageDescription: 10-Pin Plastic MSOP, Exposed Die Pad, Body 3 x 3 mm, Pitch 0.5 mm; Supplier 1: Digi-Key; Supplier Part Number 1: LT3991EMSE-5#TRPBF-ND; RoHS: TRUE
footprint LT-MSE-10-EDP_N (SOP, 10-Leads, Body 3.1x3.1mm, Pitch 0.5mm, Thermal Pad 1.88x1.68mm, IPC Medium Density)
footprint LT-MSE-10-EDP_L (SOP, 10-Leads, Body 3.1x3.1mm, Pitch 0.5mm, Thermal Pad 1.88x1.68mm, IPC High Density)
footprint LT-MSE-10-EDP_M (SOP, 10-Leads, Body 3.1x3.1mm, Pitch 0.5mm, Thermal Pad 1.88x1.68mm, IPC Low Density)
pins: 1 BD (power) "This pin connects to the anode of the boost diode. The BD pin is normally connected to the output.", 2 BOOST "This pin is used to provide a drive voltage, higher than the input voltage, to the internal bipolar NPN power switch.", 3 SW (power) "The SW pin is the output of an internal power switch. Connect this pin to the inductor, catch diode, and boost capacitor.", 4 VIN (power) "The VIN pin supplies current to the LT3991’s internal circuitry and to the internal power switch. This pin must be locally bypassed.", 5 EN (in) "The part is in shutdown when this pin is low and active when this pin is high. The hysteretic threshold voltage is 1.005V going up and 0.975V going down. The EN threshold is only accurate when VIN is above 4.3V. If VIN is (See Datasheet)", 6 VOUT (in) "The LT3991- 3.3 and LT3991-5 regulate the VOUT pin to 3.3V and 5V respectively. This pin connects to the internal 10Mohm feedback divider that programs the fixed output voltage.", 7 SS (in) "A capacitor and a series resistor are tied between SS and ground to slowly ramp up the peak current limit of the LT3991 on start-up. The soft-start capacitor is only actively discharged when EN is low. The SS pin is released (See Datasheet)", 8 RT "A resistor is tied between RT and ground to set the switching frequency.", 9 PG (oc) "The PG pin is the open-drain output of an internal comparator. PGOOD remains low until the FB pin is within 9% of the final regulation voltage. PGOOD is valid when the LT3991 is enabled and VIN is above 4.3V", 10 SYNC (in) "This is the external clock synchronization input. Ground this pin for low ripple Burst Mode operation at low output loads. Tie to a clock source for synchronization, which will include pulse-skipping at low output loads. (See Datasheet)", 11 EP (power) "Ground. The exposed pad must be soldered to PCB."

## LT3991IDD#PBF
designator U?
1.2 A Step-Down Regulator with 2.8 uA Quiescent Current, 10-pin SON (DD-10), -40 to 125 degC, Pb-Free; Manufacturer: Linear Technology; PartNumber: LT3991IDD#PBF; Number of Outputs: 1; PackageReference: DD-10; PackageDescription: 10-Pin Plastic DFN, Body 3 x 3 mm, Pitch 0.5 mm; Supplier 1: Digi-Key; Supplier Part Number 1: LT3991IDD#PBF-ND; RoHS: TRUE
footprint LT-DD-10_V (SON, 10-Leads, Body 3x3mm, Pitch 0.5mm, Thermal Pad 2.38x1.65mm)
pins: 1 BD (power) "This pin connects to the anode of the boost diode. The BD pin is normally connected to the output.", 2 BOOST "This pin is used to provide a drive voltage, higher than the input voltage, to the internal bipolar NPN power switch.", 3 SW (power) "The SW pin is the output of an internal power switch. Connect this pin to the inductor, catch diode, and boost capacitor.", 4 VIN (power), 5 EN (in), 6 FB (in), 7 SS (in), 8 RT "A resistor is tied between RT and ground to set the switching frequency.", 9 PG (oc), 10 SYNC (in) "This is the external clock synchronization input. Ground this pin for low ripple Burst Mode operation at low output loads. Tie to a clock source for synchronization, which will include pulse-skipping at low output loads. (See Datasheet)", 11 EP (power) "Ground. The exposed pad must be soldered to PCB."

## LT3991IDD#TRPBF
designator U?
1.2 A Step-Down Regulator with 2.8 uA Quiescent Current, 10-pin SON (DD-10), -40 to 125 degC, Pb-Free, Tape and Reel; Manufacturer: Linear Technology; PartNumber: LT3991IDD#TRPBF; Number of Outputs: 1; PackageReference: DD-10; PackageDescription: 10-Pin Plastic DFN, Body 3 x 3 mm, Pitch 0.5 mm; Supplier 1: Digi-Key; Supplier Part Number 1: LT3991IDD#TRPBF-ND; RoHS: TRUE
footprint LT-DD-10_V (SON, 10-Leads, Body 3x3mm, Pitch 0.5mm, Thermal Pad 2.38x1.65mm)
pins: 1 BD (power) "This pin connects to the anode of the boost diode. The BD pin is normally connected to the output.", 2 BOOST "This pin is used to provide a drive voltage, higher than the input voltage, to the internal bipolar NPN power switch.", 3 SW (power) "The SW pin is the output of an internal power switch. Connect this pin to the inductor, catch diode, and boost capacitor.", 4 VIN (power), 5 EN (in), 6 FB (in), 7 SS (in), 8 RT "A resistor is tied between RT and ground to set the switching frequency.", 9 PG (oc), 10 SYNC (in) "This is the external clock synchronization input. Ground this pin for low ripple Burst Mode operation at low output loads. Tie to a clock source for synchronization, which will include pulse-skipping at low output loads. (See Datasheet)", 11 EP (power) "Ground. The exposed pad must be soldered to PCB."

## LT3991IMSE#PBF
designator U?
1.2 A Step-Down Regulator with 2.8 uA Quiescent Current, 10-pin SOP (MSE-10-EDP), -40 to 125 degC, Pb-Free; Manufacturer: Linear Technology; PartNumber: LT3991IMSE#PBF; Number of Outputs: 1; PackageReference: MSE-10; PackageDescription: 10-Pin Plastic MSOP, Exposed Die Pad, Body 3 x 3 mm, Pitch 0.5 mm; Supplier 1: Digi-Key; Supplier Part Number 1: LT3991IMSE#PBF-ND; RoHS: TRUE
footprint LT-MSE-10-EDP_N (SOP, 10-Leads, Body 3.1x3.1mm, Pitch 0.5mm, Thermal Pad 1.88x1.68mm, IPC Medium Density)
footprint LT-MSE-10-EDP_L (SOP, 10-Leads, Body 3.1x3.1mm, Pitch 0.5mm, Thermal Pad 1.88x1.68mm, IPC High Density)
footprint LT-MSE-10-EDP_M (SOP, 10-Leads, Body 3.1x3.1mm, Pitch 0.5mm, Thermal Pad 1.88x1.68mm, IPC Low Density)
pins: 1 BD (power) "This pin connects to the anode of the boost diode. The BD pin is normally connected to the output.", 2 BOOST "This pin is used to provide a drive voltage, higher than the input voltage, to the internal bipolar NPN power switch.", 3 SW (power) "The SW pin is the output of an internal power switch. Connect this pin to the inductor, catch diode, and boost capacitor.", 4 VIN (power), 5 EN (in), 6 FB (in), 7 SS (in), 8 RT "A resistor is tied between RT and ground to set the switching frequency.", 9 PG (oc), 10 SYNC (in) "This is the external clock synchronization input. Ground this pin for low ripple Burst Mode operation at low output loads. Tie to a clock source for synchronization, which will include pulse-skipping at low output loads. (See Datasheet)", 11 EP (power) "Ground. The exposed pad must be soldered to PCB."

## LT3991IMSE#TRPBF
designator U?
1.2 A Step-Down Regulator with 2.8 uA Quiescent Current, 10-pin SOP (MSE-10-EDP), -40 to 125 degC, Pb-Free, Tape and Reel; Manufacturer: Linear Technology; PartNumber: LT3991IMSE#TRPBF; Number of Outputs: 1; PackageReference: MSE-10; PackageDescription: 10-Pin Plastic MSOP, Exposed Die Pad, Body 3 x 3 mm, Pitch 0.5 mm; Supplier 1: Digi-Key; Supplier Part Number 1: LT3991IMSE#TRPBF-ND; RoHS: TRUE
footprint LT-MSE-10-EDP_N (SOP, 10-Leads, Body 3.1x3.1mm, Pitch 0.5mm, Thermal Pad 1.88x1.68mm, IPC Medium Density)
footprint LT-MSE-10-EDP_L (SOP, 10-Leads, Body 3.1x3.1mm, Pitch 0.5mm, Thermal Pad 1.88x1.68mm, IPC High Density)
footprint LT-MSE-10-EDP_M (SOP, 10-Leads, Body 3.1x3.1mm, Pitch 0.5mm, Thermal Pad 1.88x1.68mm, IPC Low Density)
pins: 1 BD (power) "This pin connects to the anode of the boost diode. The BD pin is normally connected to the output.", 2 BOOST "This pin is used to provide a drive voltage, higher than the input voltage, to the internal bipolar NPN power switch.", 3 SW (power) "The SW pin is the output of an internal power switch. Connect this pin to the inductor, catch diode, and boost capacitor.", 4 VIN (power), 5 EN (in), 6 FB (in), 7 SS (in), 8 RT "A resistor is tied between RT and ground to set the switching frequency.", 9 PG (oc), 10 SYNC (in) "This is the external clock synchronization input. Ground this pin for low ripple Burst Mode operation at low output loads. Tie to a clock source for synchronization, which will include pulse-skipping at low output loads. (See Datasheet)", 11 EP (power) "Ground. The exposed pad must be soldered to PCB."

## LT3991IMSE-3.3#PBF
designator U?
1.2 A Step-Down Regulator with 2.8 uA Quiescent Current, 10-pin SOP (MSE-10-EDP), -40 to 125 degC, Pb-Free; Manufacturer: Linear Technology; PartNumber: LT3991IMSE-3.3#PBF; Number of Outputs: 1; PackageReference: MSE-10; PackageDescription: 10-Pin Plastic MSOP, Exposed Die Pad, Body 3 x 3 mm, Pitch 0.5 mm; Supplier 1: Digi-Key; Supplier Part Number 1: LT3991IMSE-3.3#PBF-ND; RoHS: TRUE
footprint LT-MSE-10-EDP_N (SOP, 10-Leads, Body 3.1x3.1mm, Pitch 0.5mm, Thermal Pad 1.88x1.68mm, IPC Medium Density)
footprint LT-MSE-10-EDP_L (SOP, 10-Leads, Body 3.1x3.1mm, Pitch 0.5mm, Thermal Pad 1.88x1.68mm, IPC High Density)
footprint LT-MSE-10-EDP_M (SOP, 10-Leads, Body 3.1x3.1mm, Pitch 0.5mm, Thermal Pad 1.88x1.68mm, IPC Low Density)
pins: 1 BD (power) "This pin connects to the anode of the boost diode. The BD pin is normally connected to the output.", 2 BOOST "This pin is used to provide a drive voltage, higher than the input voltage, to the internal bipolar NPN power switch.", 3 SW (power) "The SW pin is the output of an internal power switch. Connect this pin to the inductor, catch diode, and boost capacitor.", 4 VIN (power) "The VIN pin supplies current to the LT3991’s internal circuitry and to the internal power switch. This pin must be locally bypassed.", 5 EN (in) "The part is in shutdown when this pin is low and active when this pin is high. The hysteretic threshold voltage is 1.005V going up and 0.975V going down. The EN threshold is only accurate when VIN is above 4.3V. If VIN is (See Datasheet)", 6 VOUT (in) "The LT3991- 3.3 and LT3991-5 regulate the VOUT pin to 3.3V and 5V respectively. This pin connects to the internal 10Mohm feedback divider that programs the fixed output voltage.", 7 SS (in) "A capacitor and a series resistor are tied between SS and ground to slowly ramp up the peak current limit of the LT3991 on start-up. The soft-start capacitor is only actively discharged when EN is low. The SS pin is released (See Datasheet)", 8 RT "A resistor is tied between RT and ground to set the switching frequency.", 9 PG (oc) "The PG pin is the open-drain output of an internal comparator. PGOOD remains low until the FB pin is within 9% of the final regulation voltage. PGOOD is valid when the LT3991 is enabled and VIN is above 4.3V", 10 SYNC (in) "This is the external clock synchronization input. Ground this pin for low ripple Burst Mode operation at low output loads. Tie to a clock source for synchronization, which will include pulse-skipping at low output loads. (See Datasheet)", 11 EP (power) "Ground. The exposed pad must be soldered to PCB."

## LT3991IMSE-3.3#TRPBF
designator U?
1.2 A Step-Down Regulator with 2.8 uA Quiescent Current, 10-pin SOP (MSE-10-EDP), -40 to 125 degC, Pb-Free, Tape and Reel; Manufacturer: Linear Technology; PartNumber: LT3991IMSE-3.3#TRPBF; Number of Outputs: 1; PackageReference: MSE-10; PackageDescription: 10-Pin Plastic MSOP, Exposed Die Pad, Body 3 x 3 mm, Pitch 0.5 mm; Supplier 1: Digi-Key; Supplier Part Number 1: LT3991IMSE-3.3#TRPBF-ND; RoHS: TRUE
footprint LT-MSE-10-EDP_N (SOP, 10-Leads, Body 3.1x3.1mm, Pitch 0.5mm, Thermal Pad 1.88x1.68mm, IPC Medium Density)
footprint LT-MSE-10-EDP_L (SOP, 10-Leads, Body 3.1x3.1mm, Pitch 0.5mm, Thermal Pad 1.88x1.68mm, IPC High Density)
footprint LT-MSE-10-EDP_M (SOP, 10-Leads, Body 3.1x3.1mm, Pitch 0.5mm, Thermal Pad 1.88x1.68mm, IPC Low Density)
pins: 1 BD (power) "This pin connects to the anode of the boost diode. The BD pin is normally connected to the output.", 2 BOOST "This pin is used to provide a drive voltage, higher than the input voltage, to the internal bipolar NPN power switch.", 3 SW (power) "The SW pin is the output of an internal power switch. Connect this pin to the inductor, catch diode, and boost capacitor.", 4 VIN (power) "The VIN pin supplies current to the LT3991’s internal circuitry and to the internal power switch. This pin must be locally bypassed.", 5 EN (in) "The part is in shutdown when this pin is low and active when this pin is high. The hysteretic threshold voltage is 1.005V going up and 0.975V going down. The EN threshold is only accurate when VIN is above 4.3V. If VIN is (See Datasheet)", 6 VOUT (in) "The LT3991- 3.3 and LT3991-5 regulate the VOUT pin to 3.3V and 5V respectively. This pin connects to the internal 10Mohm feedback divider that programs the fixed output voltage.", 7 SS (in) "A capacitor and a series resistor are tied between SS and ground to slowly ramp up the peak current limit of the LT3991 on start-up. The soft-start capacitor is only actively discharged when EN is low. The SS pin is released (See Datasheet)", 8 RT "A resistor is tied between RT and ground to set the switching frequency.", 9 PG (oc) "The PG pin is the open-drain output of an internal comparator. PGOOD remains low until the FB pin is within 9% of the final regulation voltage. PGOOD is valid when the LT3991 is enabled and VIN is above 4.3V", 10 SYNC (in) "This is the external clock synchronization input. Ground this pin for low ripple Burst Mode operation at low output loads. Tie to a clock source for synchronization, which will include pulse-skipping at low output loads. (See Datasheet)", 11 EP (power) "Ground. The exposed pad must be soldered to PCB."